# EAGLE library part MICROBUILDER_MCP73871 (library Adafruit PowerBoost 1000C Rev B)
MCP73871 Lithium Polymer Battery Charger Digikey: MCP73871-2CCI/ML-ND
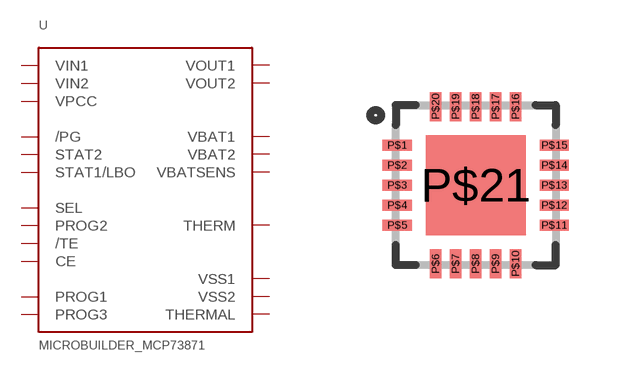
[diagram p1: symbol with the pads of MICROBUILDER_QFN20_4MM; footprint MICROBUILDER_QFN20_4MM]

Designator prefix U

## MICROBUILDER_MCP73871  [MICROBUILDER_QFN20_4MM]
P$1  VOUT1
P$2  VPCC
P$3  SEL
P$4  PROG2
P$5  THERM
P$6  /PG
P$7  STAT2
P$8  STAT1/LBO
P$9  /TE
P$10  VSS1
P$11  VSS2
P$12  PROG3
P$13  PROG1
P$14  VBAT1
P$15  VBAT2
P$16  VBATSENS
P$17  CE
P$18  VIN1
P$19  VIN2
P$20  VOUT2
P$21  THERMAL

## Footprint MICROBUILDER_QFN20_4MM (pad centres in mm)
20-Lead QFN 4x4mm Body, 0.5mm pitch Source: http://ww1.microchip.com/downloads/en/DeviceDoc/22090b.pdf
smd 0.73 x 0.28: P$1 -1.965,1; P$2 -1.965,0.5; P$3 -1.965,0; P$4 -1.965,-0.5; P$5 -1.965,-1; P$11 1.965,-1; P$12 1.965,-0.5; P$13 1.965,0; P$14 1.965,0.5; P$15 1.965,1
smd 0.28 x 0.73: P$6 -1,-1.965; P$7 -0.5,-1.965; P$8 0,-1.965; P$9 0.5,-1.965; P$10 1,-1.965; P$16 1,1.965; P$17 0.5,1.965; P$18 0,1.965; P$19 -0.5,1.965; P$20 -1,1.965
smd 2.5 x 2.5: P$21 0,0